# Altium schematic symbol library CRCW0402634KFKED.SchLib: 1 symbol
Pins are listed as number, name and electrical type; pins without a type are passive.

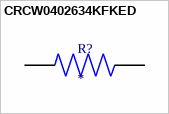
[diagram p0: symbol CRCW0402634KFKED]

## CRCW0402634KFKED
designator R?
RES, THICK FILM, 634K, 1%, 0.063W, 0402; MP: CRCW0402634KFKED; MF: {'manufacturer': u'Vishay Dale'}; Price: None; Availability: Unavailable; Value: *; Package: None
footprint RESC1005X40N
pins: 1, 2